# Altium footprint library Main.PcbLib: 15 footprints
Each footprint in its own frame and in the unit in brackets; x right, y up, seen from the top. Pads: shape width x height; smd on the part's side, far side on the other; paste and mask are expansions set on the pad; w line width, h text height; cw(c..) or ccw(c..) is an arc to the next point about the centre after c.
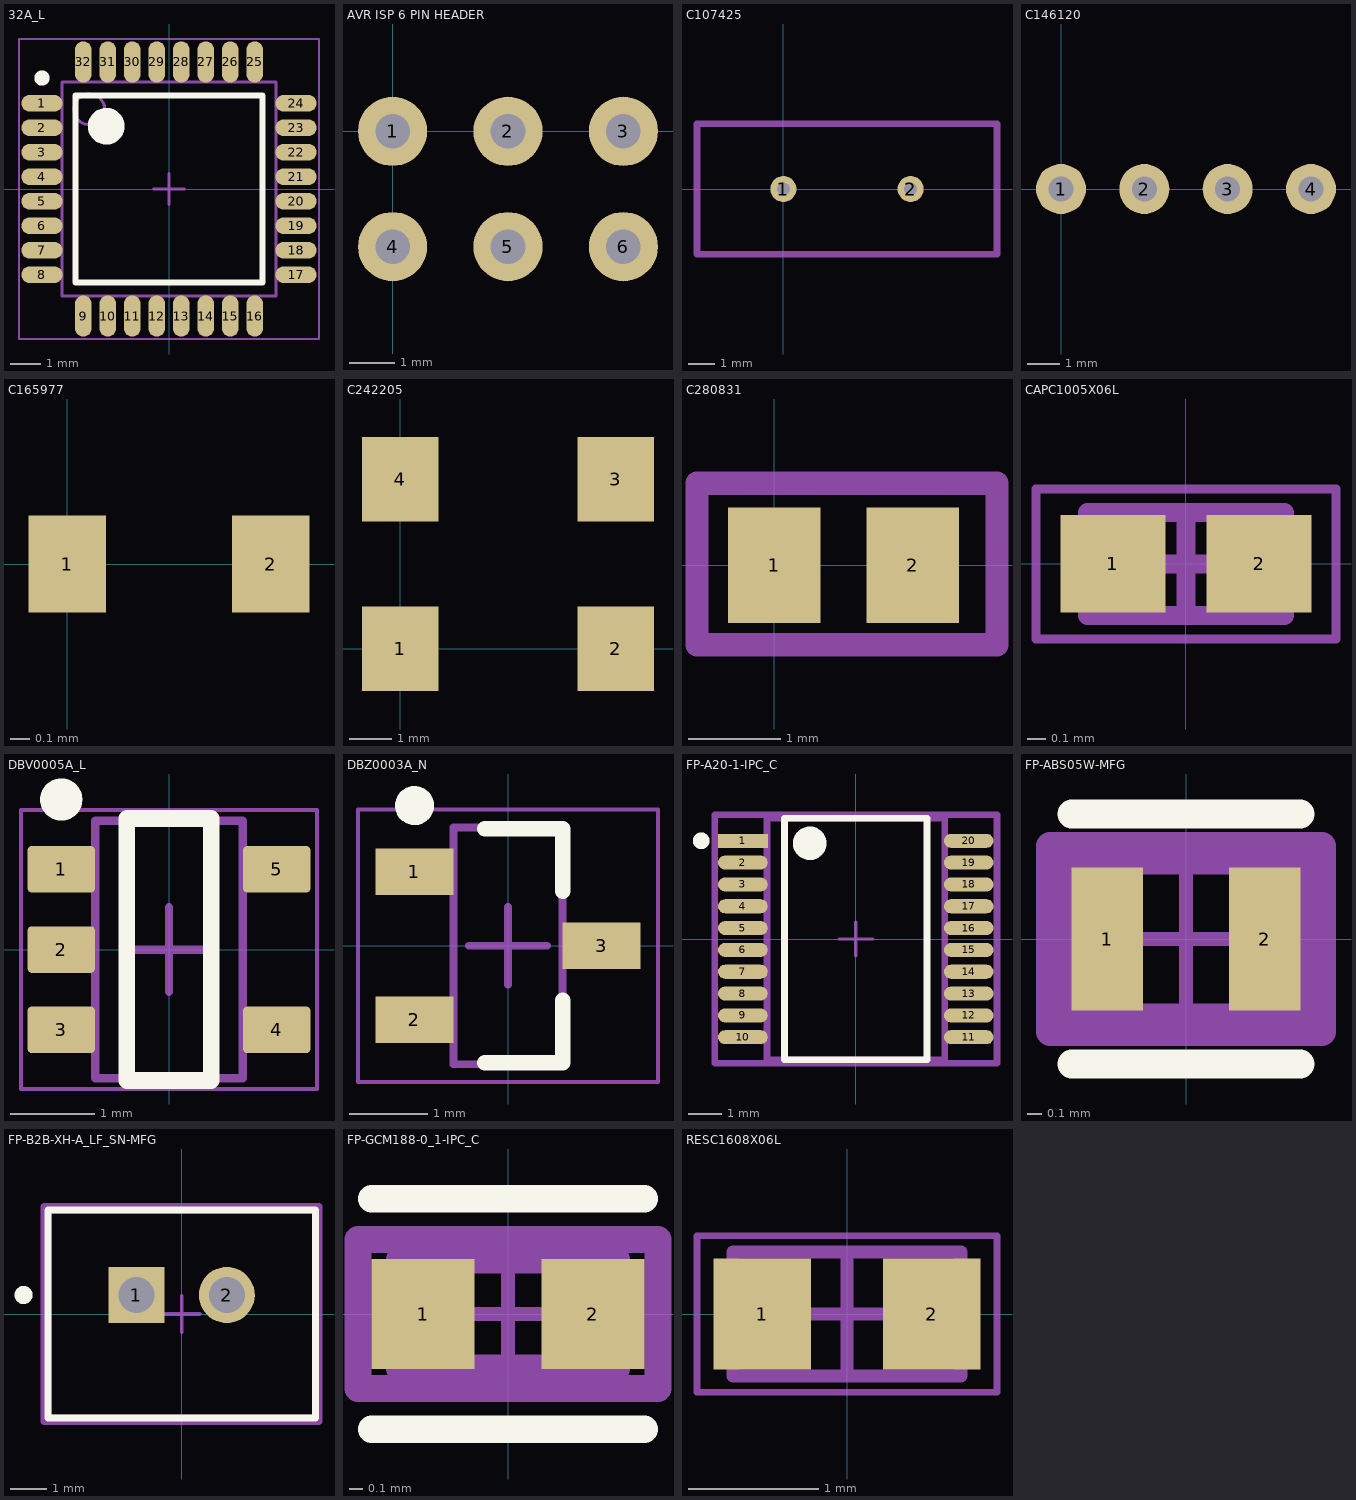
[diagram p0: the footprints below, top view; thin cyan lines are the x and y axes]

## 32A_L [mm] "Thin QFP, 32-Leads, Body 7x7mm, Pitch 0.8mm, IPC High Density"
height 1.2
pads (32):
  oval 1.35x0.55 smd: 1(-4.15,2.8) 2(-4.15,2) 3(-4.15,1.2) 4(-4.15,0.4) 5(-4.15,-0.4) 6(-4.15,-1.2) 7(-4.15,-2) 8(-4.15,-2.8) 17(4.15,-2.8) 18(4.15,-2) 19(4.15,-1.2) 20(4.15,-0.4) 21(4.15,0.4) 22(4.15,1.2) 23(4.15,2) 24(4.15,2.8)
  oval 0.55x1.35 smd: 9(-2.8,-4.15) 10(-2,-4.15) 11(-1.2,-4.15) 12(-0.4,-4.15) 13(0.4,-4.15) 14(1.2,-4.15) 15(2,-4.15) 16(2.8,-4.15) 25(2.8,4.15) 26(2,4.15) 27(1.2,4.15) 28(0.4,4.15) 29(-0.4,4.15) 30(-1.2,4.15) 31(-2,4.15) 32(-2.8,4.15)
Top Overlay:
  circle w0.6: c-2.05,2.05 r0.3
  circle w0.25: c-4.15,3.625 r0.125
  lines w0.2: -3.05,-3.05 3.05,-3.05 3.05,3.05 -3.05,3.05 -3.05,-3.05
Mechanical 13:
  circle w0.1: c-2.6,2.6 r0.5
  lines w0.1: -3.5,-3.5 3.5,-3.5 3.5,3.5 -3.5,3.5 -3.5,-3.5
Mechanical 15:
  lines w0.05: -4.9,-4.9 4.9,-4.9 4.9,4.9 -4.9,4.9 -4.9,-4.9
  lines w0.1: -0.5,0 0.5,0 ; 0,-0.5 0,0.5
3D body: height 1.2, standoff 0, extent -3.5,-3.5 3.5,3.5

## AVR ISP 6 PIN HEADER [mil]
pads (6):
  round 60 hole 30: 1(0,0) 2(100,0) 3(200,0) 4(0,-100) 5(100,-100) 6(200,-100)

## C107425 [mm]
pads (2):
  round 1 hole 0.5: 1(0,0) 2(4.88,0)
Mechanical 13:
  lines w0.254: -3.31,-2.5 8.19,-2.5 8.19,2.5 -3.31,2.5 -3.31,-2.5

## C146120 [mil]
pads (4):
  round 60 hole 30: 1(0,0) 2(100,0) 3(200,0) 4(300,0)

## C165977 [mm]
pads (2):
  rect 0.4x0.5 smd: 1(0,0) 2(1.05,0)

## C242205 [mm]
pads (4):
  rect 1.8x2 smd: 1(0,0) 2(5.08,0) 3(5.08,4) 4(0,4)

## C280831 [mm]
pads (2):
  rect 1x1.25 smd: 1(0,0) 2(1.5,0)
Mechanical 13:
  lines w0.254: -0.837,-0.861 2.413,-0.861 2.413,0.889 -0.837,0.889 -0.837,-0.861

## CAPC1005X06L [mm] "Chip Capacitor, 2-Leads, Body 1.00x0.50mm, IPC High Density"
height 0.55
pads (2):
  rect 0.56x0.52 smd: 1(-0.39,0) 2(0.39,0)
Top Assembly:
  lines w0.1: -0.525,-0.275 0.525,-0.275 0.525,0.275 -0.525,0.275 -0.525,-0.275
Top Courtyard:
  lines w0.05: -0.8,-0.4 0.8,-0.4 0.8,0.4 -0.8,0.4 -0.8,-0.4
  lines w0.1: -0.275,0 0.275,0 ; 0,-0.275 0,0.275
3D body "CAPC1005X06L.step": height 0.55, standoff 0, extent -0.525,-0.275 0.525,0.275

## DBV0005A_L [mm] "SOT23, 5-Leads, Body 3.05x1.75mm, Pitch 0.95mm, IPC High Density"
height 1.45
pads (5):
  rrect18% 0.8x0.55 smd: 1(-1.275,0.95) 2(-1.275,0) 3(-1.275,-0.95) 4(1.275,-0.95) 5(1.275,0.95)
Top Overlay:
  circle w0.25: c-1.275,1.775 r0.125
  lines w0.2: -0.5,-1.55 -0.5,1.55 0.5,1.55 0.5,-1.55 -0.5,-1.55
Mechanical 1:
  text ".Designator" at -0.635,-0.254 h0.4
Mechanical 13:
  lines w0.1: -0.875,-1.525 0.875,-1.525 0.875,1.525 -0.875,1.525 -0.875,-1.525
Mechanical 15:
  lines w0.05: -1.75,-1.65 1.75,-1.65 1.75,1.65 -1.75,1.65 -1.75,-1.65
  lines w0.1: -0.5,0 0.5,0 ; 0,-0.5 0,0.5
3D body "DBV0005AaksMF05A.stp": height 1.08, standoff -0.01, extent -1.422,-1.461 1.422,1.46

## DBZ0003A_N [mm] "SOT23, 3-Leads, Body 3.04x1.4mm, Pitch 0.95mm, IPC Medium Density"
height 1.12
pads (3):
  rect 1x0.6 smd: 1(-1.2,0.95) 2(-1.2,-0.95) 3(1.2,0)
Top Overlay:
  circle w0.25: c-1.2,1.8 r0.125
  lines w0.2: -0.3,-1.5 0.7,-1.5 0.7,-0.7 ; -0.3,1.5 0.7,1.5 0.7,0.7
Mechanical 13:
  lines w0.1: -0.7,-1.52 -0.7,1.52 0.7,1.52 0.7,-1.52 -0.7,-1.52
Mechanical 15:
  lines w0.05: -1.925,-1.75 -1.925,1.75 1.925,1.75 1.925,-1.75 -1.925,-1.75
  lines w0.1: -0.5,0 0.5,0 ; 0,-0.5 0,0.5
3D body "DBZ0003AakaMF03A.stp": height 0.96, standoff -0.02, extent -1.257,-1.461 1.257,1.46

## FP-A20-1-IPC_C [mm]
pads (20):
  rect 1.482x0.418 smd paste+0 mask+0: 1(-3.364,2.925)
  rrect100% 1.482x0.418 smd paste+0 mask+0: 2(-3.364,2.275) 3(-3.364,1.625) 4(-3.364,0.975) 5(-3.364,0.325) 6(-3.364,-0.325) 7(-3.364,-0.975) 8(-3.364,-1.625) 9(-3.364,-2.275) 10(-3.364,-2.925) 11(3.364,-2.925) 12(3.364,-2.275) 13(3.364,-1.625) 14(3.364,-0.975) 15(3.364,-0.325) 16(3.364,0.325) 17(3.364,0.975) 18(3.364,1.625) 19(3.364,2.275) 20(3.364,2.925)
Top Overlay:
  circle w0.5: c-1.373,2.85 r0.25
  circle w0.25: c-4.605,2.925 r0.125
  lines w0.2: -2.123,-3.6 2.123,-3.6 2.123,3.6 -2.123,3.6 -2.123,-3.6
Top 3D Body:
  lines w0.2: -2.645,-3.6 2.645,-3.6 2.645,3.6 -2.645,3.6 -2.645,-3.6
Top Assembly:
  lines w0.2: -4.205,-3.7 4.205,-3.7 4.205,3.7 -4.205,3.7 -4.205,-3.7
  text ".Designator" at 0,0.188 h1
Top Courtyard:
  lines w0.2: -4.205,-3.7 4.205,-3.7 4.205,3.7 -4.205,3.7 -4.205,-3.7
Top Component Center:
  lines w0.1: -0.5,0 0.5,0 ; 0,-0.5 0,0.5
3D body "IC_Maxim_Integrated_MAX31865AAP+T_eec.STEP": height 0.25, standoff 0, extent -4.205,-3.7 4.205,3.7

## FP-ABS05W-MFG [mm]
pads (2):
  rect 0.5x1 smd paste+0 mask+0: 1(-0.55,0) 2(0.55,0)
Top Overlay:
  lines w0.2: -0.8,-0.875 0.8,-0.875 ; -0.8,0.875 0.8,0.875
Top 3D Body:
  lines w0.2: -0.85,-0.55 -0.85,0.55 0.85,0.55 0.85,-0.55 -0.85,-0.55
Top Assembly:
  lines w0.2: -0.95,-0.65 -0.95,0.65 0.95,0.65 0.95,-0.65 -0.95,-0.65
  text ".Designator" at 0,0.188 h1
Top Courtyard:
  lines w0.2: -0.95,-0.65 -0.95,0.65 0.95,0.65 0.95,-0.65 -0.95,-0.65
Top Component Center:
  lines w0.1: -0.5,0 0.5,0 ; 0,-0.5 0,0.5
3D body "Crys_Abracon_LLC_ABS05W-32_768KHZ-D-2-T_eec.STEP": height 0.25, standoff 0, extent -0.95,-0.65 0.95,0.65

## FP-B2B-XH-A_LF_SN-MFG [mm]
pads (2):
  rect 1.55x1.55 hole 1 paste-1000 mask+0: 1(-1.25,0.525)
  round 1.55 hole 1 paste-1000 mask+0: 2(1.25,0.525)
Top Overlay:
  circle w0.25: c-4.375,0.525 r0.125
  lines w0.2: -3.7,-2.875 -3.7,2.875 3.7,2.875 3.7,-2.875 -3.7,-2.875
Top 3D Body:
  lines w0.2: -3.7,-2.875 -3.7,2.875 3.7,2.875 3.7,-2.875 -3.7,-2.875
Top Assembly:
  lines w0.2: -3.8,-2.975 -3.8,2.975 3.8,2.975 3.8,-2.975 -3.8,-2.975
  text ".Designator" at 0,0.188 h1
Top Courtyard:
  lines w0.2: -3.8,-2.975 -3.8,2.975 3.8,2.975 3.8,-2.975 -3.8,-2.975
Top Component Center:
  lines w0.1: -0.5,0 0.5,0 ; 0,-0.5 0,0.5
3D body "Conn_JST_B2B-XH-A_LF_SN_eec.STEP": height 0.25, standoff 0, extent -3.8,-2.975 3.8,2.975

## FP-GCM188-0_1-IPC_C [mm]
pads (2):
  rect 0.759x0.812 smd paste+0 mask+0: 1(-0.627,0) 2(0.627,0)
Top Overlay:
  lines w0.2: -1.006,-0.85 1.006,-0.85 ; -1.006,0.85 1.006,0.85
Top 3D Body:
  lines w0.2: -0.8,-0.4 0.8,-0.4 0.8,0.4 -0.8,0.4 -0.8,-0.4
Top Assembly:
  lines w0.2: -1.106,-0.55 1.106,-0.55 1.106,0.55 -1.106,0.55 -1.106,-0.55
Top Courtyard:
  lines w0.2: -1.106,-0.55 1.106,-0.55 1.106,0.55 -1.106,0.55 -1.106,-0.55
Top Component Center:
  lines w0.1: -0.5,0 0.5,0 ; 0,-0.5 0,0.5
3D body "Cap_Murata_GCM1885C2A5R3BA16J_eec.STEP": height 0.25, standoff 0, extent -1.106,-0.55 1.106,0.55

## RESC1608X06L [mm] "Chip Resistor, 2-Leads, Body 1.60x0.85mm, IPC High Density"
height 0.55
pads (2):
  rect 0.75x0.85 smd: 1(-0.65,0) 2(0.65,0)
Mechanical 13:
  lines w0.1: -0.875,-0.475 -0.875,0.475 0.875,0.475 0.875,-0.475 -0.875,-0.475
Mechanical 15:
  lines w0.05: -1.15,-0.6 -1.15,0.6 1.15,0.6 1.15,-0.6 -1.15,-0.6
  lines w0.1: -0.475,0 0.475,0 ; 0,-0.475 0,0.475
3D body "RESC1608X06L.step": height 0.55, standoff 0, extent -0.875,-0.475 0.875,0.475